# EAGLE library part BM22-6S-V_53_ (library SamacSys_Parts)
Board to Board & Mezzanine Connectors MICRO HYB B2FPC STR SMT REC 6C GLD PLTD Source: Datasheet <https://www.hirose.com/product/en/download_file/key_name/BM22-6S-V(53)/category/Drawing (2D)/doc_file_id/45867/?file_category_id=6&item_id=06771004153&is_series=>
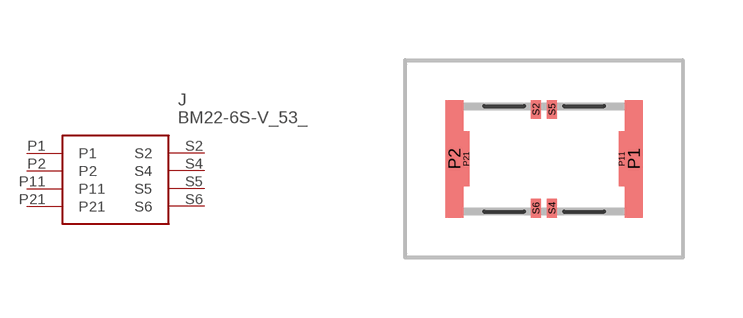
[diagram p3: symbol with the pads of BM226SV53; footprint BM226SV53]

Designator prefix J

## BM22-6S-V_53_ (DESCRIPTION: Board to Board & Mezzanine Connectors MICRO HYB B2FPC STR SMT REC 6C GLD PLTD; HEIGHT: 1mm; MANUFACTURER_NAME: Hirose; MANUFACTURER_PART_NUMBER: BM22-6S-V(53); MOUSER_PART_NUMBER: 798-BM22-6S-V(53); MOUSER_PRICE-STOCK: https://www.mouser.co.uk/ProductDetail/Hirose-Connector/BM22-6S-V53?qs=KTQu7UTzQvUT2dOsQzZO%2Fw%3D%3D)  [BM226SV53]
P1  P1
P2  P2
P11  P11
P21  P21
S2  S2
S4  S4
S5  S5
S6  S6

## Footprint BM226SV53 (pad centres in mm)
BM22-6S-V(53)-2
smd 0.45 x 2.94: P1 2.245,0; P2 -2.245,0
smd 0.15 x 1.38: P11 1.945,0; P21 -1.945,0
smd 0.25 x 0.47: S2 -0.2,1.235; S4 0.2,-1.235; S5 0.2,1.235; S6 -0.2,-1.235